# Altium schematic symbol library POT_1K_LOG_TH_RA.SchLib: 1 symbol
Pins are listed as number, name and electrical type; pins without a type are passive.

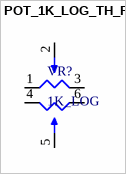
[diagram p0: symbol POT_1K_LOG_TH_RA]

## POT_1K_LOG_TH_RA
designator VR?, comment 1K_LOG
1k Ohm 2 Gang Logarithmic Panel Mount Potentiometer None 1.0 Kierros Carbon 0.025W, 1/40W PC Pins, Board Locks; Supplier 1: Digi-Key; Supplier Part Number 1: PTD902-1015K-A102-ND
footprint POT_1K_LOG_TH_RA
pins: 1, 2, 3, 4, 5, 6